# EAGLE library part RADIO (library untitled)
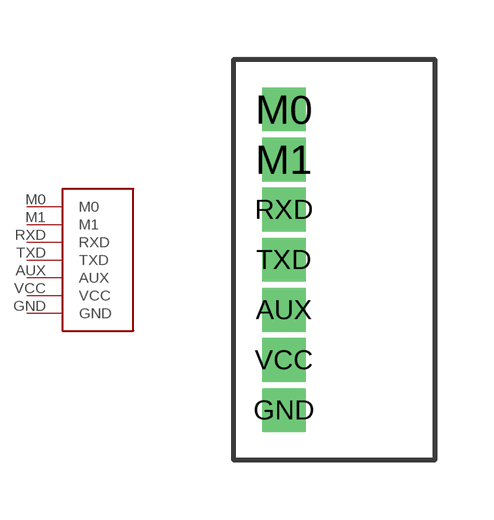
[diagram p1: symbol with the pads of RADIO; footprint RADIO]

Designator prefix -

## RADIO  [RADIO]
AUX  AUX
GND  GND
M0  M0
M1  M1
RXD  RXD
TXD  TXD
VCC  VCC

## Footprint RADIO (pad centres in mm)
drill 0.6 square: AUX -1.27,-1.27; GND -1.27,-3.81; M0 -1.27,3.81; M1 -1.27,2.54; RXD -1.27,1.27; TXD -1.27,0; VCC -1.27,-2.54